# Altium schematic symbol library 元件库.SchLib: 15 symbols
Pins are listed as number, name and electrical type; pins without a type are passive.

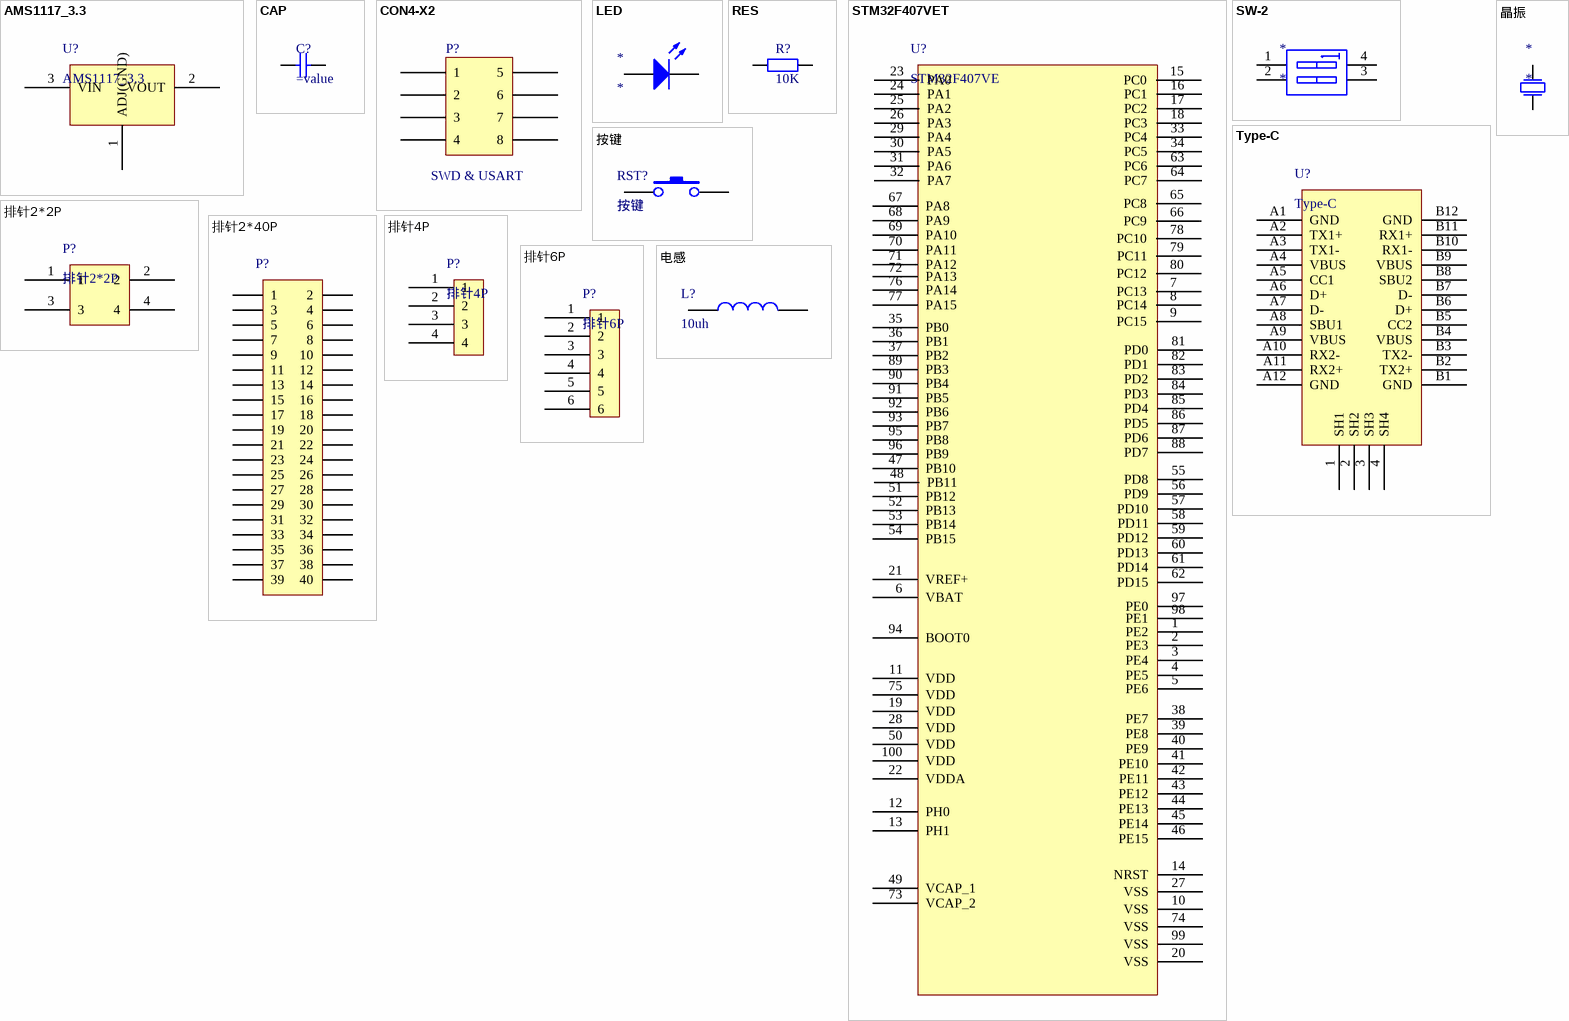
[diagram p0: symbols AMS1117_3.3 to 电感]

## AMS1117_3.3
designator U?
footprint SOT-223
pins: 1 ADJ(GND), 2 VOUT, 3 VIN

## CAP
designator C?
电容
footprint 0805_C
pins: 1, 2

## CON4-X2
designator P?, comment SWD & USART
footprint HDR2X4
pins: 1, 2, 3, 4, 5, 6, 7, 8

## LED
designator *
footprint 0805_L
pins: 1 A, 2 K

## RES
designator R?, comment 10K
footprint 0805_R
pins: 1, 2

## STM32F407VET
designator U?, comment STM32F407VE
IC
footprint QFP-100_14x14x05P
pins: 1 PE2, 2 PE3, 3 PE4, 4 PE5, 5 PE6, 6 VBAT, 7 PC13, 8 PC14, 9 PC15, 10 VSS, 11 VDD, 12 PH0, 13 PH1, 14 NRST, 15 PC0, 16 PC1, 17 PC2, 18 PC3, 19 VDD, 20 VSS, 21 VREF+, 22 VDDA, 23 PA0, 24 PA1, 25 PA2, 26 PA3, 27 VSS, 28 VDD, 29 PA4, 30 PA5, 31 PA6, 32 PA7, 33 PC4, 34 PC5, 35 PB0, 36 PB1, 37 PB2, 38 PE7, 39 PE8, 40 PE9, 41 PE10, 42 PE11, 43 PE12, 44 PE13, 45 PE14, 46 PE15, 47 PB10, 48 PB11, 49 VCAP_1, 50 VDD, 51 PB12, 52 PB13, 53 PB14, 54 PB15, 55 PD8, 56 PD9, 57 PD10, 58 PD11, 59 PD12, 60 PD13, 61 PD14, 62 PD15, 63 PC6, 64 PC7, 65 PC8, 66 PC9, 67 PA8, 68 PA9, 69 PA10, 70 PA11, 71 PA12, 72 PA13, 73 VCAP_2, 74 VSS, 75 VDD, 76 PA14, 77 PA15, 78 PC10, 79 PC11, 80 PC12, 81 PD0, 82 PD1, 83 PD2, 84 PD3, 85 PD4, 86 PD5, 87 PD6, 88 PD7, 89 PB3, 90 PB4, 91 PB5, 92 PB6, 93 PB7, 94 BOOT0, 95 PB8, 96 PB9, 97 PE0, 98 PE1, 99 VSS, 100 VDD

## SW-2
designator *
footprint SWT10*6_P4
pins: 1 A1, 2 A2, 3 B2, 4 B1

## Type-C
designator U?
footprint Type-C
pins: 1 SH1, 2 SH2, 3 SH3, 4 SH4, A1 GND, A2 TX1+, A3 TX1-, A4 VBUS, A5 CC1, A6 D+, A7 D-, A8 SBU1, A9 VBUS, A10 RX2-, A11 RX2+, A12 GND, B1 GND, B2 TX2+, B3 TX2-, B4 VBUS, B5 CC2, B6 D+, B7 D-, B8 SBU2, B9 VBUS, B10 RX1-, B11 RX1+, B12 GND

## 按键
designator RST?
footprint SWT3*4
pins: 1, 2

## 排针2*2P
designator P?
footprint HDR2X2
pins: 1, 2, 3, 4

## 排针2*40P
designator P?  (value not drawn)
footprint HDR2X20 (Connector; Header; 21x2 Position)
pins: 1, 2, 3, 4, 5, 6, 7, 8, 9, 10, 11, 12, 13, 14, 15, 16, 17, 18, 19, 20, 21, 22, 23, 24, 25, 26, 27, 28, 29, 30, 31, 32, 33, 34, 35, 36, 37, 38, 39, 40

## 排针4P
designator P?
footprint HDR4
pins: 1, 2, 3, 4

## 排针6P
designator P?
footprint HDR6
pins: 1, 2, 3, 4, 5, 6

## 晶振
designator *
footprint 5032_2P
pins: 1 P1, 2 P2

## 电感
designator L?, comment 10uh
footprint 0805_I
pins: 1, 2